# Altium integrated library Dallas Power Mgt Voltage Detector.IntLib: 64 symbols
Pins are listed as number, name and electrical type; pins without a type are passive.

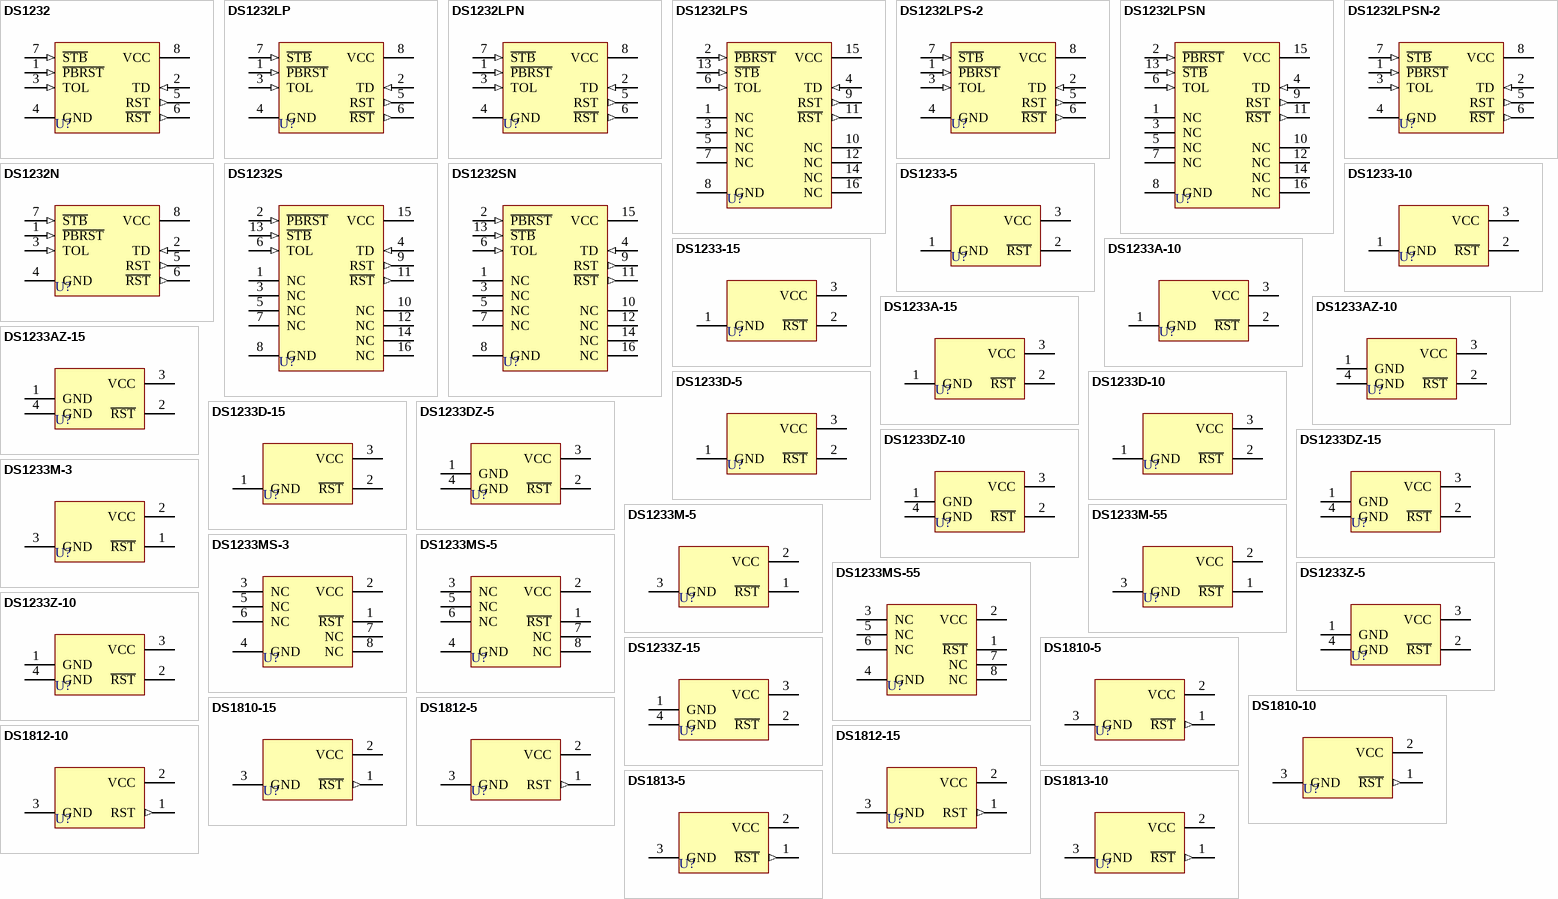
[diagram p0: symbols DS1232 to DS1813-10]

## DS1232
designator U?
MicroMonitor Chip; PackageDocument: 1999; Published: 13-Oct-2000; LatestRevisionDate: 06-Jun-2005; LatestRevisionNote: Stylized 3D Model Added.; DatasheetDocument: 7-May-1998; PackageReference: DIP8; Publisher: Altium Limited; ComponentLink1Description: Manufacturer Link; ComponentLink1URL: http://www.maxim-ic.com/; ComponentLink2Description: Datasheet; ComponentLink2URL: http://pdfserv.maxim-ic.com/en/ds/DS1232.pdf
footprint DIP8 (DIP; 8 Leads; Row Spacing 7.62 mm; Pitch 2.54 mm)
3D model DIP8 (DIP; 8 Leads; Row Spacing 7.62 mm; Pitch 2.54 mm)
pins: 1 ~{PBRST} (in), 2 TD (in), 3 TOL (in), 4 GND (power), 5 RST (out), 6 ~{RST} (out), 7 ~{STB} (in), 8 VCC (power)

## DS1232LP
designator U?
Low-Power MicroMonitor Chip; PackageDocument: 1999; Published: 13-Oct-2000; LatestRevisionDate: 06-Jun-2005; LatestRevisionNote: Stylized 3D Model Added.; DatasheetDocument: 26-Jun-1998; PackageReference: DIP8; Publisher: Altium Limited; ComponentLink1Description: Manufacturer Link; ComponentLink1URL: http://www.maxim-ic.com/; ComponentLink2Description: Datasheet; ComponentLink2URL: http://pdfserv.maxim-ic.com/en/ds/DS1232LP.pdf
footprint DIP8 (DIP; 8 Leads; Row Spacing 7.62 mm; Pitch 2.54 mm)
3D model DIP8 (DIP; 8 Leads; Row Spacing 7.62 mm; Pitch 2.54 mm)
pins: 1 ~{PBRST} (in), 2 TD (in), 3 TOL (in), 4 GND (power), 5 RST (out), 6 ~{RST} (out), 7 ~{STB} (in), 8 VCC (power)

## DS1232LPN
designator U?
Low-Power MicroMonitor Chip; PackageDocument: 1999; Published: 13-Oct-2000; LatestRevisionDate: 06-Jun-2005; LatestRevisionNote: Stylized 3D Model Added.; DatasheetDocument: 26-Jun-1998; PackageReference: DIP8; Publisher: Altium Limited; ComponentLink1Description: Manufacturer Link; ComponentLink1URL: http://www.maxim-ic.com/; ComponentLink2Description: Datasheet; ComponentLink2URL: http://pdfserv.maxim-ic.com/en/ds/DS1232LP.pdf
footprint DIP8 (DIP; 8 Leads; Row Spacing 7.62 mm; Pitch 2.54 mm)
3D model DIP8 (DIP; 8 Leads; Row Spacing 7.62 mm; Pitch 2.54 mm)
pins: 1 ~{PBRST} (in), 2 TD (in), 3 TOL (in), 4 GND (power), 5 RST (out), 6 ~{RST} (out), 7 ~{STB} (in), 8 VCC (power)

## DS1232LPS
designator U?
Low-Power MicroMonitor Chip; PackageDocument: 1999; Note: Pin numbers 1, 3, 5, 7, 10, 12, 14 and 16 are Not Connected (NC); Published: 13-Oct-2000; LatestRevisionDate: 06-Jun-2005; LatestRevisionNote: Stylized 3D Model Added.; DatasheetDocument: 26-Jun-1998; PackageReference: SOIC16W; Publisher: Altium Limited; ComponentLink1Description: Manufacturer Link; ComponentLink1URL: http://www.maxim-ic.com/; ComponentLink2Description: Datasheet; ComponentLink2URL: http://pdfserv.maxim-ic.com/en/ds/DS1232LP.pdf
footprint SOIC16W (Small Outline; 16 Leads; Body Width 7.5 mm; Pitch 1.27 mm)
3D model SOIC16W (Small Outline; 16 Leads; Body Width 7.5 mm; Pitch 1.27 mm)
pins: 1 NC, 2 ~{PBRST} (in), 3 NC, 4 TD (in), 5 NC, 6 TOL (in), 7 NC, 8 GND (power), 9 RST (out), 10 NC, 11 ~{RST} (out), 12 NC, 13 ~{STB} (in), 14 NC, 15 VCC (power), 16 NC

## DS1232LPS-2
designator U?
Low-Power MicroMonitor Chip; PackageDocument: 1999; Published: 13-Oct-2000; LatestRevisionDate: 06-Jun-2005; LatestRevisionNote: Stylized 3D Model Added.; DatasheetDocument: 26-Jun-1998; PackageReference: SOIC8N; Publisher: Altium Limited; ComponentLink1Description: Manufacturer Link; ComponentLink1URL: http://www.maxim-ic.com/; ComponentLink2Description: Datasheet; ComponentLink2URL: http://pdfserv.maxim-ic.com/en/ds/DS1232LP.pdf
footprint SOIC8N (Small Outline; 8 Leads; Body Width 3.9 mm; Pitch 1.27 mm)
3D model SOIC8N (Small Outline; 8 Leads; Body Width 3.9 mm; Pitch 1.27 mm)
pins: 1 ~{PBRST} (in), 2 TD (in), 3 TOL (in), 4 GND (power), 5 RST (out), 6 ~{RST} (out), 7 ~{STB} (in), 8 VCC (power)

## DS1232LPSN
designator U?
Low-Power MicroMonitor Chip; PackageDocument: 1999; Note: Pin numbers 1, 3, 5, 7, 10, 12, 14 and 16 are Not Connected (NC); Published: 13-Oct-2000; LatestRevisionDate: 06-Jun-2005; LatestRevisionNote: Stylized 3D Model Added.; DatasheetDocument: 26-Jun-1998; PackageReference: SOIC16W; Publisher: Altium Limited; ComponentLink1Description: Manufacturer Link; ComponentLink1URL: http://www.maxim-ic.com/; ComponentLink2Description: Datasheet; ComponentLink2URL: http://pdfserv.maxim-ic.com/en/ds/DS1232LP.pdf
footprint SOIC16W (Small Outline; 16 Leads; Body Width 7.5 mm; Pitch 1.27 mm)
3D model SOIC16W (Small Outline; 16 Leads; Body Width 7.5 mm; Pitch 1.27 mm)
pins: 1 NC, 2 ~{PBRST} (in), 3 NC, 4 TD (in), 5 NC, 6 TOL (in), 7 NC, 8 GND (power), 9 RST (out), 10 NC, 11 ~{RST} (out), 12 NC, 13 ~{STB} (in), 14 NC, 15 VCC (power), 16 NC

## DS1232LPSN-2
designator U?
Low-Power MicroMonitor Chip; PackageDocument: 1999; Published: 13-Oct-2000; LatestRevisionDate: 06-Jun-2005; LatestRevisionNote: Stylized 3D Model Added.; DatasheetDocument: 26-Jun-1998; PackageReference: SOIC8N; Publisher: Altium Limited; ComponentLink1Description: Manufacturer Link; ComponentLink1URL: http://www.maxim-ic.com/; ComponentLink2Description: Datasheet; ComponentLink2URL: http://pdfserv.maxim-ic.com/en/ds/DS1232LP.pdf
footprint SOIC8N (Small Outline; 8 Leads; Body Width 3.9 mm; Pitch 1.27 mm)
3D model SOIC8N (Small Outline; 8 Leads; Body Width 3.9 mm; Pitch 1.27 mm)
pins: 1 ~{PBRST} (in), 2 TD (in), 3 TOL (in), 4 GND (power), 5 RST (out), 6 ~{RST} (out), 7 ~{STB} (in), 8 VCC (power)

## DS1232N
designator U?
MicroMonitor Chip; PackageDocument: 1999; Published: 13-Oct-2000; LatestRevisionDate: 06-Jun-2005; LatestRevisionNote: Stylized 3D Model Added.; DatasheetDocument: 7-May-1998; PackageReference: DIP8; Publisher: Altium Limited; ComponentLink1Description: Manufacturer Link; ComponentLink1URL: http://www.maxim-ic.com/; ComponentLink2Description: Datasheet; ComponentLink2URL: http://pdfserv.maxim-ic.com/en/ds/DS1232.pdf
footprint DIP8 (DIP; 8 Leads; Row Spacing 7.62 mm; Pitch 2.54 mm)
3D model DIP8 (DIP; 8 Leads; Row Spacing 7.62 mm; Pitch 2.54 mm)
pins: 1 ~{PBRST} (in), 2 TD (in), 3 TOL (in), 4 GND (power), 5 RST (out), 6 ~{RST} (out), 7 ~{STB} (in), 8 VCC (power)

## DS1232S
designator U?
MicroMonitor Chip; PackageDocument: 1999; Note: Pin numbers 1, 3, 5, 7, 10, 12, 14 and 16 are Not Connected (NC); Published: 13-Oct-2000; LatestRevisionDate: 06-Jun-2005; LatestRevisionNote: Stylized 3D Model Added.; DatasheetDocument: 7-May-1998; PackageReference: SOIC16W; Publisher: Altium Limited; ComponentLink1Description: Manufacturer Link; ComponentLink1URL: http://www.maxim-ic.com/; ComponentLink2Description: Datasheet; ComponentLink2URL: http://pdfserv.maxim-ic.com/en/ds/DS1232.pdf
footprint SOIC16W (Small Outline; 16 Leads; Body Width 7.5 mm; Pitch 1.27 mm)
3D model SOIC16W (Small Outline; 16 Leads; Body Width 7.5 mm; Pitch 1.27 mm)
pins: 1 NC, 2 ~{PBRST} (in), 3 NC, 4 TD (in), 5 NC, 6 TOL (in), 7 NC, 8 GND (power), 9 RST (out), 10 NC, 11 ~{RST} (out), 12 NC, 13 ~{STB} (in), 14 NC, 15 VCC (power), 16 NC

## DS1232SN
designator U?
MicroMonitor Chip; PackageDocument: 1999; Note: Pin numbers 1, 3, 5, 7, 10, 12, 14 and 16 are Not Connected (NC); Published: 13-Oct-2000; LatestRevisionDate: 06-Jun-2005; LatestRevisionNote: Stylized 3D Model Added.; DatasheetDocument: 7-May-1998; PackageReference: SOIC16W; Publisher: Altium Limited; ComponentLink1Description: Manufacturer Link; ComponentLink1URL: http://www.maxim-ic.com/; ComponentLink2Description: Datasheet; ComponentLink2URL: http://pdfserv.maxim-ic.com/en/ds/DS1232.pdf
footprint SOIC16W (Small Outline; 16 Leads; Body Width 7.5 mm; Pitch 1.27 mm)
3D model SOIC16W (Small Outline; 16 Leads; Body Width 7.5 mm; Pitch 1.27 mm)
pins: 1 NC, 2 ~{PBRST} (in), 3 NC, 4 TD (in), 5 NC, 6 TOL (in), 7 NC, 8 GND (power), 9 RST (out), 10 NC, 11 ~{RST} (out), 12 NC, 13 ~{STB} (in), 14 NC, 15 VCC (power), 16 NC

## DS1233-5
designator U?
5V EconoReset; Published: 13-Oct-2000; LatestRevisionDate: 17-Jul-2002; LatestRevisionNote: Schematic Re-drawn; Re-released for DXP Platform.; DatasheetDocument: 26-Feb-1998; PackageDocument: Feb-1999; PackageReference: TO-92; Publisher: Altium Limited; ComponentLink1Description: Manufacturer Link; ComponentLink1URL: http://www.maxim-ic.com/; ComponentLink2Description: Datasheet; ComponentLink2URL: http://pdfserv.maxim-ic.com/en/ds/DS1233.pdf
footprint TO-92 (TO, Flat Index; 3 In-Line, Axial Leads; Body Dia. 4.7mm; Leads 0.56 x 0.51 mm (max))
pins: 1 GND (power), 2 ~{RST} (oc), 3 VCC (power)

## DS1233-10
designator U?
5V EconoReset; Published: 13-Oct-2000; LatestRevisionDate: 17-Jul-2002; LatestRevisionNote: Schematic Re-drawn; Re-released for DXP Platform.; DatasheetDocument: 26-Feb-1998; PackageDocument: Feb-1999; PackageReference: TO-92; Publisher: Altium Limited; ComponentLink1Description: Manufacturer Link; ComponentLink1URL: http://www.maxim-ic.com/; ComponentLink2Description: Datasheet; ComponentLink2URL: http://pdfserv.maxim-ic.com/en/ds/DS1233.pdf
footprint TO-92 (TO, Flat Index; 3 In-Line, Axial Leads; Body Dia. 4.7mm; Leads 0.56 x 0.51 mm (max))
pins: 1 GND (power), 2 ~{RST} (oc), 3 VCC (power)

## DS1233-15
designator U?
5V EconoReset; Published: 13-Oct-2000; LatestRevisionDate: 17-Jul-2002; LatestRevisionNote: Schematic Re-drawn; Re-released for DXP Platform.; DatasheetDocument: 26-Feb-1998; PackageDocument: Feb-1999; PackageReference: TO-92; Publisher: Altium Limited; ComponentLink1Description: Manufacturer Link; ComponentLink1URL: http://www.maxim-ic.com/; ComponentLink2Description: Datasheet; ComponentLink2URL: http://pdfserv.maxim-ic.com/en/ds/DS1233.pdf
footprint TO-92 (TO, Flat Index; 3 In-Line, Axial Leads; Body Dia. 4.7mm; Leads 0.56 x 0.51 mm (max))
pins: 1 GND (power), 2 ~{RST} (oc), 3 VCC (power)

## DS1233A-10
designator U?
3.3V EconoReset; Published: 13-Oct-2000; LatestRevisionDate: 17-Jul-2002; LatestRevisionNote: Schematic Re-drawn; Re-released for DXP Platform.; DatasheetDocument: 26-Feb-1998; PackageDocument: Feb-1999; PackageReference: TO-92; Publisher: Altium Limited; ComponentLink1Description: Manufacturer Link; ComponentLink1URL: http://www.maxim-ic.com/; ComponentLink2Description: Datasheet; ComponentLink2URL: http://pdfserv.maxim-ic.com/en/ds/DS1233A.pdf
footprint TO-92 (TO, Flat Index; 3 In-Line, Axial Leads; Body Dia. 4.7mm; Leads 0.56 x 0.51 mm (max))
pins: 1 GND (power), 2 ~{RST} (oc), 3 VCC (power)

## DS1233A-15
designator U?
3.3V EconoReset; Published: 13-Oct-2000; LatestRevisionDate: 17-Jul-2002; LatestRevisionNote: Schematic Re-drawn; Re-released for DXP Platform.; DatasheetDocument: 26-Feb-1998; PackageDocument: Feb-1999; PackageReference: TO-92; Publisher: Altium Limited; ComponentLink1Description: Manufacturer Link; ComponentLink1URL: http://www.maxim-ic.com/; ComponentLink2Description: Datasheet; ComponentLink2URL: http://pdfserv.maxim-ic.com/en/ds/DS1233A.pdf
footprint TO-92 (TO, Flat Index; 3 In-Line, Axial Leads; Body Dia. 4.7mm; Leads 0.56 x 0.51 mm (max))
pins: 1 GND (power), 2 ~{RST} (oc), 3 VCC (power)

## DS1233AZ-10
designator U?
3.3V Econo-Reset; Published: 13-Oct-2000; LatestRevisionDate: 17-Jul-2002; LatestRevisionNote: Re-released for DXP Platform.; DatasheetDocument: 26-Feb-1998; PackageDocument: Feb-1999; PackageReference: SOT-223; Publisher: Altium Limited; ComponentLink1Description: Manufacturer Link; ComponentLink1URL: http://www.maxim-ic.com/; ComponentLink2Description: Datasheet; ComponentLink2URL: http://pdfserv.maxim-ic.com/en/ds/DS1233A.pdf
footprint SOT-223 (SOT-223/SC-73; 4 Leads; Body 6.7 x 7.3 mm, inc. leads (LxW max))
pins: 1 GND (power), 2 ~{RST} (oc), 3 VCC (power), 4 GND (power)

## DS1233AZ-15
designator U?
3.3V Econo-Reset; Published: 13-Oct-2000; LatestRevisionDate: 17-Jul-2002; LatestRevisionNote: Re-released for DXP Platform.; DatasheetDocument: 26-Feb-1998; PackageDocument: Feb-1999; PackageReference: SOT-223; Publisher: Altium Limited; ComponentLink1Description: Manufacturer Link; ComponentLink1URL: http://www.maxim-ic.com/; ComponentLink2Description: Datasheet; ComponentLink2URL: http://pdfserv.maxim-ic.com/en/ds/DS1233A.pdf
footprint SOT-223 (SOT-223/SC-73; 4 Leads; Body 6.7 x 7.3 mm, inc. leads (LxW max))
pins: 1 GND (power), 2 ~{RST} (oc), 3 VCC (power), 4 GND (power)

## DS1233D-5
designator U?
5V EconoReset; Published: 13-Oct-2000; LatestRevisionDate: 17-Jul-2002; LatestRevisionNote: Schematic Re-drawn; Re-released for DXP Platform.; DatasheetDocument: 26-Feb-1998; PackageDocument: Feb-1999; PackageReference: TO-92; Publisher: Altium Limited; ComponentLink1Description: Manufacturer Link; ComponentLink1URL: http://www.maxim-ic.com/; ComponentLink2Description: Datasheet; ComponentLink2URL: http://pdfserv.maxim-ic.com/en/ds/DS1233D.pdf
footprint TO-92 (TO, Flat Index; 3 In-Line, Axial Leads; Body Dia. 4.7mm; Leads 0.56 x 0.51 mm (max))
pins: 1 GND (power), 2 ~{RST} (oc), 3 VCC (power)

## DS1233D-10
designator U?
5V EconoReset; Published: 13-Oct-2000; LatestRevisionDate: 17-Jul-2002; LatestRevisionNote: Schematic Re-drawn; Re-released for DXP Platform.; DatasheetDocument: 26-Feb-1998; PackageDocument: Feb-1999; PackageReference: TO-92; Publisher: Altium Limited; ComponentLink1Description: Manufacturer Link; ComponentLink1URL: http://www.maxim-ic.com/; ComponentLink2Description: Datasheet; ComponentLink2URL: http://pdfserv.maxim-ic.com/en/ds/DS1233D.pdf
footprint TO-92 (TO, Flat Index; 3 In-Line, Axial Leads; Body Dia. 4.7mm; Leads 0.56 x 0.51 mm (max))
pins: 1 GND (power), 2 ~{RST} (oc), 3 VCC (power)

## DS1233D-15
designator U?
5V EconoReset; Published: 13-Oct-2000; LatestRevisionDate: 17-Jul-2002; LatestRevisionNote: Schematic Re-drawn; Re-released for DXP Platform.; DatasheetDocument: 26-Feb-1998; PackageDocument: Feb-1999; PackageReference: TO-92; Publisher: Altium Limited; ComponentLink1Description: Manufacturer Link; ComponentLink1URL: http://www.maxim-ic.com/; ComponentLink2Description: Datasheet; ComponentLink2URL: http://pdfserv.maxim-ic.com/en/ds/DS1233D.pdf
footprint TO-92 (TO, Flat Index; 3 In-Line, Axial Leads; Body Dia. 4.7mm; Leads 0.56 x 0.51 mm (max))
pins: 1 GND (power), 2 ~{RST} (oc), 3 VCC (power)

## DS1233DZ-5
designator U?
5V EconoReset; Published: 13-Oct-2000; LatestRevisionDate: 17-Jul-2002; LatestRevisionNote: Re-released for DXP Platform.; DatasheetDocument: 26-Feb-1998; PackageDocument: Feb-1999; PackageReference: SOT-223; Publisher: Altium Limited; ComponentLink1Description: Manufacturer Link; ComponentLink1URL: http://www.maxim-ic.com/; ComponentLink2Description: Datasheet; ComponentLink2URL: http://pdfserv.maxim-ic.com/en/ds/DS1233D.pdf
footprint SOT-223 (SOT-223/SC-73; 4 Leads; Body 6.7 x 7.3 mm, inc. leads (LxW max))
pins: 1 GND (power), 2 ~{RST} (oc), 3 VCC (power), 4 GND (power)

## DS1233DZ-10
designator U?
5V EconoReset; Published: 13-Oct-2000; LatestRevisionDate: 17-Jul-2002; LatestRevisionNote: Re-released for DXP Platform.; DatasheetDocument: 26-Feb-1998; PackageDocument: Feb-1999; PackageReference: SOT-223; Publisher: Altium Limited; ComponentLink1Description: Manufacturer Link; ComponentLink1URL: http://www.maxim-ic.com/; ComponentLink2Description: Datasheet; ComponentLink2URL: http://pdfserv.maxim-ic.com/en/ds/DS1233D.pdf
footprint SOT-223 (SOT-223/SC-73; 4 Leads; Body 6.7 x 7.3 mm, inc. leads (LxW max))
pins: 1 GND (power), 2 ~{RST} (oc), 3 VCC (power), 4 GND (power)

## DS1233DZ-15
designator U?
5V EconoReset; Published: 13-Oct-2000; LatestRevisionDate: 17-Jul-2002; LatestRevisionNote: Re-released for DXP Platform.; DatasheetDocument: 26-Feb-1998; PackageDocument: Feb-1999; PackageReference: SOT-223; Publisher: Altium Limited; ComponentLink1Description: Manufacturer Link; ComponentLink1URL: http://www.maxim-ic.com/; ComponentLink2Description: Datasheet; ComponentLink2URL: http://pdfserv.maxim-ic.com/en/ds/DS1233D.pdf
footprint SOT-223 (SOT-223/SC-73; 4 Leads; Body 6.7 x 7.3 mm, inc. leads (LxW max))
pins: 1 GND (power), 2 ~{RST} (oc), 3 VCC (power), 4 GND (power)

## DS1233M-3
designator U?
EconoReset; Published: 13-Oct-2000; LatestRevisionDate: 17-Jul-2002; LatestRevisionNote: Re-released for DXP Platform.; DatasheetDocument: 26-Feb-1998; PackageDocument: Feb-1999; PackageReference: TO-92; Publisher: Altium Limited; ComponentLink1Description: Manufacturer Link; ComponentLink1URL: http://www.maxim-ic.com/; ComponentLink2Description: Datasheet; ComponentLink2URL: http://pdfserv.maxim-ic.com/en/ds/DS1233M.pdf
footprint TO-92 (TO, Flat Index; 3 In-Line, Axial Leads; Body Dia. 4.7mm; Leads 0.56 x 0.51 mm (max))
pins: 1 ~{RST} (oc), 2 VCC (power), 3 GND (power)

## DS1233M-5
designator U?
EconoReset; Published: 13-Oct-2000; LatestRevisionDate: 17-Jul-2002; LatestRevisionNote: Re-released for DXP Platform.; DatasheetDocument: 26-Feb-1998; PackageDocument: Feb-1999; PackageReference: TO-92; Publisher: Altium Limited; ComponentLink1Description: Manufacturer Link; ComponentLink1URL: http://www.maxim-ic.com/; ComponentLink2Description: Datasheet; ComponentLink2URL: http://pdfserv.maxim-ic.com/en/ds/DS1233M.pdf
footprint TO-92 (TO, Flat Index; 3 In-Line, Axial Leads; Body Dia. 4.7mm; Leads 0.56 x 0.51 mm (max))
pins: 1 ~{RST} (oc), 2 VCC (power), 3 GND (power)

## DS1233M-55
designator U?
EconoReset; Published: 13-Oct-2000; LatestRevisionDate: 17-Jul-2002; LatestRevisionNote: Re-released for DXP Platform.; DatasheetDocument: 26-Feb-1998; PackageDocument: Feb-1999; PackageReference: TO-92; Publisher: Altium Limited; ComponentLink1Description: Manufacturer Link; ComponentLink1URL: http://www.maxim-ic.com/; ComponentLink2Description: Datasheet; ComponentLink2URL: http://pdfserv.maxim-ic.com/en/ds/DS1233M.pdf
footprint TO-92 (TO, Flat Index; 3 In-Line, Axial Leads; Body Dia. 4.7mm; Leads 0.56 x 0.51 mm (max))
pins: 1 ~{RST} (oc), 2 VCC (power), 3 GND (power)

## DS1233MS-3
designator U?
EconoReset; PackageDocument: 1999; Note: Pin numbers 3, 5, 6, 7 and 8 are Not Connected (NC); Published: 13-Oct-2000; LatestRevisionDate: 06-Jun-2005; LatestRevisionNote: Stylized 3D Model Added.; DatasheetDocument: 26-Feb-1998; PackageReference: SOIC8N; Publisher: Altium Limited; ComponentLink1Description: Manufacturer Link; ComponentLink1URL: http://www.maxim-ic.com/; ComponentLink2Description: Datasheet; ComponentLink2URL: http://pdfserv.maxim-ic.com/en/ds/DS1233M.pdf
footprint SOIC8N (Small Outline; 8 Leads; Body Width 3.9 mm; Pitch 1.27 mm)
3D model SOIC8N (Small Outline; 8 Leads; Body Width 3.9 mm; Pitch 1.27 mm)
pins: 1 ~{RST} (oc), 2 VCC (power), 3 NC, 4 GND (power), 5 NC, 6 NC, 7 NC, 8 NC

## DS1233MS-5
designator U?
EconoReset; PackageDocument: 1999; Note: Pin numbers 3, 5, 6, 7 and 8 are Not Connected (NC); Published: 13-Oct-2000; LatestRevisionDate: 06-Jun-2005; LatestRevisionNote: Stylized 3D Model Added.; DatasheetDocument: 26-Feb-1998; PackageReference: SOIC8N; Publisher: Altium Limited; ComponentLink1Description: Manufacturer Link; ComponentLink1URL: http://www.maxim-ic.com/; ComponentLink2Description: Datasheet; ComponentLink2URL: http://pdfserv.maxim-ic.com/en/ds/DS1233M.pdf
footprint SOIC8N (Small Outline; 8 Leads; Body Width 3.9 mm; Pitch 1.27 mm)
3D model SOIC8N (Small Outline; 8 Leads; Body Width 3.9 mm; Pitch 1.27 mm)
pins: 1 ~{RST} (oc), 2 VCC (power), 3 NC, 4 GND (power), 5 NC, 6 NC, 7 NC, 8 NC

## DS1233MS-55
designator U?
EconoReset; PackageDocument: 1999; Note: Pin numbers 3, 5, 6, 7 and 8 are Not Connected (NC); Published: 13-Oct-2000; LatestRevisionDate: 06-Jun-2005; LatestRevisionNote: Stylized 3D Model Added.; DatasheetDocument: 26-Feb-1998; PackageReference: SOIC8N; Publisher: Altium Limited; ComponentLink1Description: Manufacturer Link; ComponentLink1URL: http://www.maxim-ic.com/; ComponentLink2Description: Datasheet; ComponentLink2URL: http://pdfserv.maxim-ic.com/en/ds/DS1233M.pdf
footprint SOIC8N (Small Outline; 8 Leads; Body Width 3.9 mm; Pitch 1.27 mm)
3D model SOIC8N (Small Outline; 8 Leads; Body Width 3.9 mm; Pitch 1.27 mm)
pins: 1 ~{RST} (oc), 2 VCC (power), 3 NC, 4 GND (power), 5 NC, 6 NC, 7 NC, 8 NC

## DS1233Z-5
designator U?
5V EconoReset; Published: 13-Oct-2000; LatestRevisionDate: 17-Jul-2002; LatestRevisionNote: Re-released for DXP Platform.; DatasheetDocument: 26-Feb-1998; PackageDocument: Feb-1999; PackageReference: SOT-223; Publisher: Altium Limited; ComponentLink1Description: Manufacturer Link; ComponentLink1URL: http://www.maxim-ic.com/; ComponentLink2Description: Datasheet; ComponentLink2URL: http://pdfserv.maxim-ic.com/en/ds/DS1233.pdf
footprint SOT-223 (SOT-223/SC-73; 4 Leads; Body 6.7 x 7.3 mm, inc. leads (LxW max))
pins: 1 GND (power), 2 ~{RST} (oc), 3 VCC (power), 4 GND (power)

## DS1233Z-10
designator U?
5V EconoReset; Published: 13-Oct-2000; LatestRevisionDate: 17-Jul-2002; LatestRevisionNote: Re-released for DXP Platform.; DatasheetDocument: 26-Feb-1998; PackageDocument: Feb-1999; PackageReference: SOT-223; Publisher: Altium Limited; ComponentLink1Description: Manufacturer Link; ComponentLink1URL: http://www.maxim-ic.com/; ComponentLink2Description: Datasheet; ComponentLink2URL: http://pdfserv.maxim-ic.com/en/ds/DS1233.pdf
footprint SOT-223 (SOT-223/SC-73; 4 Leads; Body 6.7 x 7.3 mm, inc. leads (LxW max))
pins: 1 GND (power), 2 ~{RST} (oc), 3 VCC (power), 4 GND (power)

## DS1233Z-15
designator U?
5V EconoReset; Published: 13-Oct-2000; LatestRevisionDate: 17-Jul-2002; LatestRevisionNote: Re-released for DXP Platform.; DatasheetDocument: 26-Feb-1998; PackageDocument: Feb-1999; PackageReference: SOT-223; Publisher: Altium Limited; ComponentLink1Description: Manufacturer Link; ComponentLink1URL: http://www.maxim-ic.com/; ComponentLink2Description: Datasheet; ComponentLink2URL: http://pdfserv.maxim-ic.com/en/ds/DS1233.pdf
footprint SOT-223 (SOT-223/SC-73; 4 Leads; Body 6.7 x 7.3 mm, inc. leads (LxW max))
pins: 1 GND (power), 2 ~{RST} (oc), 3 VCC (power), 4 GND (power)

## DS1810-5
designator U?
5V EconoReset with Push-Pull Output; Published: 13-Oct-2000; LatestRevisionDate: 17-Jul-2002; LatestRevisionNote: Re-released for DXP Platform.; DatasheetDocument: 26-Feb-1998; PackageDocument: Feb-1999; PackageReference: TO-92; Publisher: Altium Limited; ComponentLink1Description: Manufacturer Link; ComponentLink1URL: http://www.maxim-ic.com/; ComponentLink2Description: Datasheet; ComponentLink2URL: http://pdfserv.maxim-ic.com/en/ds/DS1810.pdf
footprint TO-92 (TO, Flat Index; 3 In-Line, Axial Leads; Body Dia. 4.7mm; Leads 0.56 x 0.51 mm (max))
pins: 1 ~{RST} (out), 2 VCC (power), 3 GND (power)

## DS1810-10
designator U?
5V EconoReset with Push-Pull Output; Published: 13-Oct-2000; LatestRevisionDate: 17-Jul-2002; LatestRevisionNote: Re-released for DXP Platform.; DatasheetDocument: 26-Feb-1998; PackageDocument: Feb-1999; PackageReference: TO-92; Publisher: Altium Limited; ComponentLink1Description: Manufacturer Link; ComponentLink1URL: http://www.maxim-ic.com/; ComponentLink2Description: Datasheet; ComponentLink2URL: http://pdfserv.maxim-ic.com/en/ds/DS1810.pdf
footprint TO-92 (TO, Flat Index; 3 In-Line, Axial Leads; Body Dia. 4.7mm; Leads 0.56 x 0.51 mm (max))
pins: 1 ~{RST} (out), 2 VCC (power), 3 GND (power)

## DS1810-15
designator U?
5V EconoReset with Push-Pull Output; Published: 13-Oct-2000; LatestRevisionDate: 17-Jul-2002; LatestRevisionNote: Re-released for DXP Platform.; DatasheetDocument: 26-Feb-1998; PackageDocument: Feb-1999; PackageReference: TO-92; Publisher: Altium Limited; ComponentLink1Description: Manufacturer Link; ComponentLink1URL: http://www.maxim-ic.com/; ComponentLink2Description: Datasheet; ComponentLink2URL: http://pdfserv.maxim-ic.com/en/ds/DS1810.pdf
footprint TO-92 (TO, Flat Index; 3 In-Line, Axial Leads; Body Dia. 4.7mm; Leads 0.56 x 0.51 mm (max))
pins: 1 ~{RST} (out), 2 VCC (power), 3 GND (power)

## DS1812-5
designator U?
5V EconoReset with Active High Push-Pull Output; Published: 13-Oct-2000; LatestRevisionDate: 17-Jul-2002; LatestRevisionNote: Re-released for DXP Platform.; DatasheetDocument: 26-Feb-1998; PackageDocument: Feb-1999; PackageReference: TO-92; Publisher: Altium Limited; ComponentLink1Description: Manufacturer Link; ComponentLink1URL: http://www.maxim-ic.com/; ComponentLink2Description: Datasheet; ComponentLink2URL: http://pdfserv.maxim-ic.com/en/ds/DS1812.pdf
footprint TO-92 (TO, Flat Index; 3 In-Line, Axial Leads; Body Dia. 4.7mm; Leads 0.56 x 0.51 mm (max))
pins: 1 RST (out), 2 VCC (power), 3 GND (power)

## DS1812-10
designator U?
5V EconoReset with Active High Push-Pull Output; Published: 13-Oct-2000; LatestRevisionDate: 17-Jul-2002; LatestRevisionNote: Re-released for DXP Platform.; DatasheetDocument: 26-Feb-1998; PackageDocument: Feb-1999; PackageReference: TO-92; Publisher: Altium Limited; ComponentLink1Description: Manufacturer Link; ComponentLink1URL: http://www.maxim-ic.com/; ComponentLink2Description: Datasheet; ComponentLink2URL: http://pdfserv.maxim-ic.com/en/ds/DS1812.pdf
footprint TO-92 (TO, Flat Index; 3 In-Line, Axial Leads; Body Dia. 4.7mm; Leads 0.56 x 0.51 mm (max))
pins: 1 RST (out), 2 VCC (power), 3 GND (power)

## DS1812-15
designator U?
5V EconoReset with Active High Push-Pull Output; Published: 13-Oct-2000; LatestRevisionDate: 17-Jul-2002; LatestRevisionNote: Re-released for DXP Platform.; DatasheetDocument: 26-Feb-1998; PackageDocument: Feb-1999; PackageReference: TO-92; Publisher: Altium Limited; ComponentLink1Description: Manufacturer Link; ComponentLink1URL: http://www.maxim-ic.com/; ComponentLink2Description: Datasheet; ComponentLink2URL: http://pdfserv.maxim-ic.com/en/ds/DS1812.pdf
footprint TO-92 (TO, Flat Index; 3 In-Line, Axial Leads; Body Dia. 4.7mm; Leads 0.56 x 0.51 mm (max))
pins: 1 RST (out), 2 VCC (power), 3 GND (power)

## DS1813-5
designator U?
5V EconoReset with Pushbutton; Published: 13-Oct-2000; LatestRevisionDate: 17-Jul-2002; LatestRevisionNote: Re-released for DXP Platform.; DatasheetDocument: 7-May-1998; PackageDocument: Feb-1999; PackageReference: TO-92; Publisher: Altium Limited; ComponentLink1Description: Manufacturer Link; ComponentLink1URL: http://www.maxim-ic.com/; ComponentLink2Description: Datasheet; ComponentLink2URL: http://pdfserv.maxim-ic.com/en/ds/DS1813.pdf
footprint TO-92 (TO, Flat Index; 3 In-Line, Axial Leads; Body Dia. 4.7mm; Leads 0.56 x 0.51 mm (max))
pins: 1 ~{RST} (out), 2 VCC (power), 3 GND (power)

## DS1813-10
designator U?
5V EconoReset with Pushbutton; Published: 13-Oct-2000; LatestRevisionDate: 17-Jul-2002; LatestRevisionNote: Re-released for DXP Platform.; DatasheetDocument: 7-May-1998; PackageDocument: Feb-1999; PackageReference: TO-92; Publisher: Altium Limited; ComponentLink1Description: Manufacturer Link; ComponentLink1URL: http://www.maxim-ic.com/; ComponentLink2Description: Datasheet; ComponentLink2URL: http://pdfserv.maxim-ic.com/en/ds/DS1813.pdf
footprint TO-92 (TO, Flat Index; 3 In-Line, Axial Leads; Body Dia. 4.7mm; Leads 0.56 x 0.51 mm (max))
pins: 1 ~{RST} (out), 2 VCC (power), 3 GND (power)

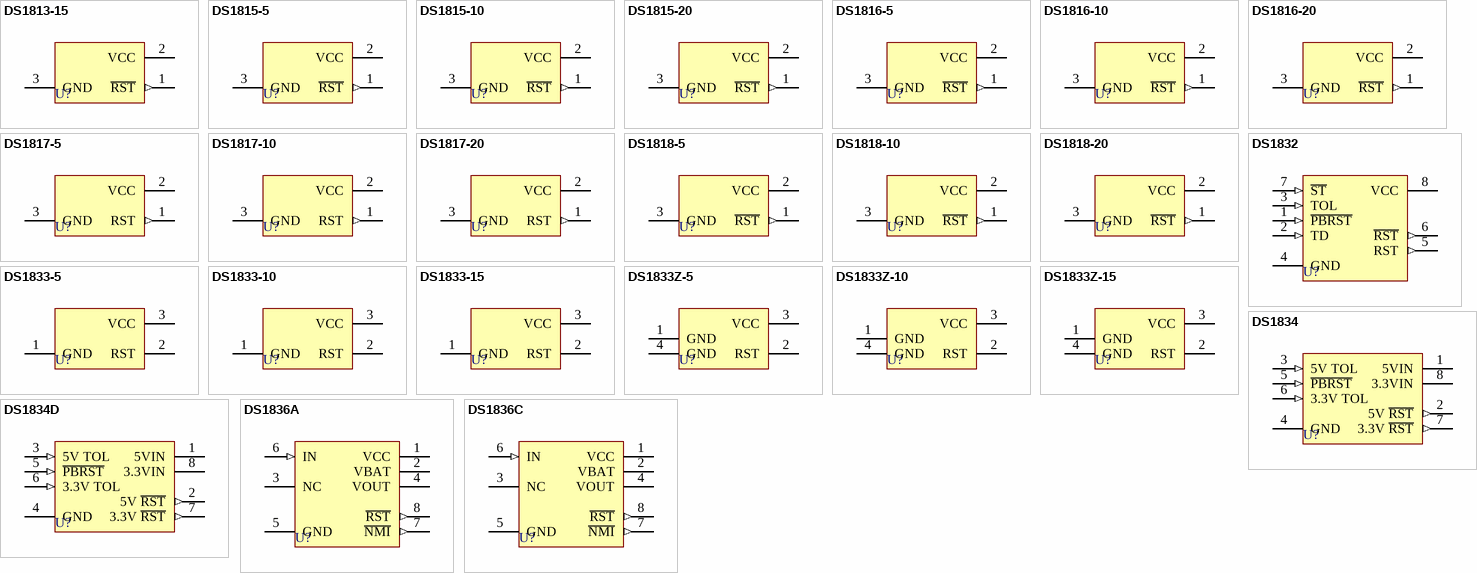
[diagram p1: symbols DS1813-15 to DS1836C]

## DS1813-15
designator U?
5V EconoReset with Pushbutton; Published: 13-Oct-2000; LatestRevisionDate: 17-Jul-2002; LatestRevisionNote: Re-released for DXP Platform.; DatasheetDocument: 7-May-1998; PackageDocument: Feb-1999; PackageReference: TO-92; Publisher: Altium Limited; ComponentLink1Description: Manufacturer Link; ComponentLink1URL: http://www.maxim-ic.com/; ComponentLink2Description: Datasheet; ComponentLink2URL: http://pdfserv.maxim-ic.com/en/ds/DS1813.pdf
footprint TO-92 (TO, Flat Index; 3 In-Line, Axial Leads; Body Dia. 4.7mm; Leads 0.56 x 0.51 mm (max))
pins: 1 ~{RST} (out), 2 VCC (power), 3 GND (power)

## DS1815-5
designator U?
3.3V EconoReset with Push-Pull Output; Published: 13-Oct-2000; LatestRevisionDate: 17-Jul-2002; LatestRevisionNote: Re-released for DXP Platform.; DatasheetDocument: 25-Mar-1998; PackageDocument: Feb-1999; PackageReference: TO-92; Publisher: Altium Limited; ComponentLink1Description: Manufacturer Link; ComponentLink1URL: http://www.maxim-ic.com/; ComponentLink2Description: Datasheet; ComponentLink2URL: http://pdfserv.maxim-ic.com/en/ds/DS1815.pdf
footprint TO-92 (TO, Flat Index; 3 In-Line, Axial Leads; Body Dia. 4.7mm; Leads 0.56 x 0.51 mm (max))
pins: 1 ~{RST} (out), 2 VCC (power), 3 GND (power)

## DS1815-10
designator U?
3.3V EconoReset with Push-Pull Output; Published: 13-Oct-2000; LatestRevisionDate: 17-Jul-2002; LatestRevisionNote: Re-released for DXP Platform.; DatasheetDocument: 25-Mar-1998; PackageDocument: Feb-1999; PackageReference: TO-92; Publisher: Altium Limited; ComponentLink1Description: Manufacturer Link; ComponentLink1URL: http://www.maxim-ic.com/; ComponentLink2Description: Datasheet; ComponentLink2URL: http://pdfserv.maxim-ic.com/en/ds/DS1815.pdf
footprint TO-92 (TO, Flat Index; 3 In-Line, Axial Leads; Body Dia. 4.7mm; Leads 0.56 x 0.51 mm (max))
pins: 1 ~{RST} (out), 2 VCC (power), 3 GND (power)

## DS1815-20
designator U?
3.3V EconoReset with Push-Pull Output; Published: 13-Oct-2000; LatestRevisionDate: 17-Jul-2002; LatestRevisionNote: Re-released for DXP Platform.; DatasheetDocument: 25-Mar-1998; PackageDocument: Feb-1999; PackageReference: TO-92; Publisher: Altium Limited; ComponentLink1Description: Manufacturer Link; ComponentLink1URL: http://www.maxim-ic.com/; ComponentLink2Description: Datasheet; ComponentLink2URL: http://pdfserv.maxim-ic.com/en/ds/DS1815.pdf
footprint TO-92 (TO, Flat Index; 3 In-Line, Axial Leads; Body Dia. 4.7mm; Leads 0.56 x 0.51 mm (max))
pins: 1 ~{RST} (out), 2 VCC (power), 3 GND (power)

## DS1816-5
designator U?
3.3V EconoReset with Open Drain Output; Published: 13-Oct-2000; LatestRevisionDate: 17-Jul-2002; LatestRevisionNote: Re-released for DXP Platform.; DatasheetDocument: 25-Mar-1998; PackageDocument: Feb-1999; PackageReference: TO-92; Publisher: Altium Limited; ComponentLink1Description: Manufacturer Link; ComponentLink1URL: http://www.maxim-ic.com/; ComponentLink2Description: Datasheet; ComponentLink2URL: http://pdfserv.maxim-ic.com/en/ds/DS1816.pdf
footprint TO-92 (TO, Flat Index; 3 In-Line, Axial Leads; Body Dia. 4.7mm; Leads 0.56 x 0.51 mm (max))
pins: 1 ~{RST} (out), 2 VCC (power), 3 GND (power)

## DS1816-10
designator U?
3.3V EconoReset with Open Drain Output; Published: 13-Oct-2000; LatestRevisionDate: 17-Jul-2002; LatestRevisionNote: Re-released for DXP Platform.; DatasheetDocument: 25-Mar-1998; PackageDocument: Feb-1999; PackageReference: TO-92; Publisher: Altium Limited; ComponentLink1Description: Manufacturer Link; ComponentLink1URL: http://www.maxim-ic.com/; ComponentLink2Description: Datasheet; ComponentLink2URL: http://pdfserv.maxim-ic.com/en/ds/DS1816.pdf
footprint TO-92 (TO, Flat Index; 3 In-Line, Axial Leads; Body Dia. 4.7mm; Leads 0.56 x 0.51 mm (max))
pins: 1 ~{RST} (out), 2 VCC (power), 3 GND (power)

## DS1816-20
designator U?
3.3V EconoReset with Open Drain Output; Published: 13-Oct-2000; LatestRevisionDate: 17-Jul-2002; LatestRevisionNote: Re-released for DXP Platform.; DatasheetDocument: 25-Mar-1998; PackageDocument: Feb-1999; PackageReference: TO-92; Publisher: Altium Limited; ComponentLink1Description: Manufacturer Link; ComponentLink1URL: http://www.maxim-ic.com/; ComponentLink2Description: Datasheet; ComponentLink2URL: http://pdfserv.maxim-ic.com/en/ds/DS1816.pdf
footprint TO-92 (TO, Flat Index; 3 In-Line, Axial Leads; Body Dia. 4.7mm; Leads 0.56 x 0.51 mm (max))
pins: 1 ~{RST} (out), 2 VCC (power), 3 GND (power)

## DS1817-5
designator U?
Active High 3.3V EconoReset; Published: 13-Oct-2000; LatestRevisionDate: 17-Jul-2002; LatestRevisionNote: Re-released for DXP Platform.; DatasheetDocument: 25-Mar-1998; PackageDocument: Feb-1999; PackageReference: TO-92; Publisher: Altium Limited; ComponentLink1Description: Manufacturer Link; ComponentLink1URL: http://www.maxim-ic.com/; ComponentLink2Description: Datasheet; ComponentLink2URL: http://pdfserv.maxim-ic.com/en/ds/DS1817.pdf
footprint TO-92 (TO, Flat Index; 3 In-Line, Axial Leads; Body Dia. 4.7mm; Leads 0.56 x 0.51 mm (max))
pins: 1 RST (out), 2 VCC (power), 3 GND (power)

## DS1817-10
designator U?
Active High 3.3V EconoReset; Published: 13-Oct-2000; LatestRevisionDate: 17-Jul-2002; LatestRevisionNote: Re-released for DXP Platform.; DatasheetDocument: 25-Mar-1998; PackageDocument: Feb-1999; PackageReference: TO-92; Publisher: Altium Limited; ComponentLink1Description: Manufacturer Link; ComponentLink1URL: http://www.maxim-ic.com/; ComponentLink2Description: Datasheet; ComponentLink2URL: http://pdfserv.maxim-ic.com/en/ds/DS1817.pdf
footprint TO-92 (TO, Flat Index; 3 In-Line, Axial Leads; Body Dia. 4.7mm; Leads 0.56 x 0.51 mm (max))
pins: 1 RST (out), 2 VCC (power), 3 GND (power)

## DS1817-20
designator U?
Active High 3.3V EconoReset; Published: 13-Oct-2000; LatestRevisionDate: 17-Jul-2002; LatestRevisionNote: Re-released for DXP Platform.; DatasheetDocument: 25-Mar-1998; PackageDocument: Feb-1999; PackageReference: TO-92; Publisher: Altium Limited; ComponentLink1Description: Manufacturer Link; ComponentLink1URL: http://www.maxim-ic.com/; ComponentLink2Description: Datasheet; ComponentLink2URL: http://pdfserv.maxim-ic.com/en/ds/DS1817.pdf
footprint TO-92 (TO, Flat Index; 3 In-Line, Axial Leads; Body Dia. 4.7mm; Leads 0.56 x 0.51 mm (max))
pins: 1 RST (out), 2 VCC (power), 3 GND (power)

## DS1818-5
designator U?
3.3V EconoReset with Pushbutton; Published: 13-Oct-2000; LatestRevisionDate: 17-Jul-2002; LatestRevisionNote: Re-released for DXP Platform.; DatasheetDocument: 7-May-1998; PackageDocument: Feb-1999; PackageReference: TO-92; Publisher: Altium Limited; ComponentLink1Description: Manufacturer Link; ComponentLink1URL: http://www.maxim-ic.com/; ComponentLink2Description: Datasheet; ComponentLink2URL: http://pdfserv.maxim-ic.com/en/ds/DS1818.pdf
footprint TO-92 (TO, Flat Index; 3 In-Line, Axial Leads; Body Dia. 4.7mm; Leads 0.56 x 0.51 mm (max))
pins: 1 ~{RST} (out), 2 VCC (power), 3 GND (power)

## DS1818-10
designator U?
3.3V EconoReset with Pushbutton; Published: 13-Oct-2000; LatestRevisionDate: 17-Jul-2002; LatestRevisionNote: Re-released for DXP Platform.; DatasheetDocument: 7-May-1998; PackageDocument: Feb-1999; PackageReference: TO-92; Publisher: Altium Limited; ComponentLink1Description: Manufacturer Link; ComponentLink1URL: http://www.maxim-ic.com/; ComponentLink2Description: Datasheet; ComponentLink2URL: http://pdfserv.maxim-ic.com/en/ds/DS1818.pdf
footprint TO-92 (TO, Flat Index; 3 In-Line, Axial Leads; Body Dia. 4.7mm; Leads 0.56 x 0.51 mm (max))
pins: 1 ~{RST} (out), 2 VCC (power), 3 GND (power)

## DS1818-20
designator U?
3.3V EconoReset with Pushbutton; Published: 13-Oct-2000; LatestRevisionDate: 17-Jul-2002; LatestRevisionNote: Re-released for DXP Platform.; DatasheetDocument: 7-May-1998; PackageDocument: Feb-1999; PackageReference: TO-92; Publisher: Altium Limited; ComponentLink1Description: Manufacturer Link; ComponentLink1URL: http://www.maxim-ic.com/; ComponentLink2Description: Datasheet; ComponentLink2URL: http://pdfserv.maxim-ic.com/en/ds/DS1818.pdf
footprint TO-92 (TO, Flat Index; 3 In-Line, Axial Leads; Body Dia. 4.7mm; Leads 0.56 x 0.51 mm (max))
pins: 1 ~{RST} (out), 2 VCC (power), 3 GND (power)

## DS1832
designator U?
3.3V MicroMonitor Chip; PackageDocument: 1999; Published: 13-Oct-2000; LatestRevisionDate: 06-Jun-2005; LatestRevisionNote: Stylized 3D Model Added.; DatasheetDocument: 26-Jun-1998; PackageReference: DIP8; Publisher: Altium Limited; ComponentLink1Description: Manufacturer Link; ComponentLink1URL: http://www.maxim-ic.com/; ComponentLink2Description: Datasheet; ComponentLink2URL: http://pdfserv.maxim-ic.com/en/ds/DS1832.pdf
footprint DIP8 (DIP; 8 Leads; Row Spacing 7.62 mm; Pitch 2.54 mm)
3D model DIP8 (DIP; 8 Leads; Row Spacing 7.62 mm; Pitch 2.54 mm)
pins: 1 ~{PBRST} (in), 2 TD (in), 3 TOL (in), 4 GND (power), 5 RST (out), 6 ~{RST} (out), 7 ~{ST} (in), 8 VCC (power)

## DS1833-5
designator U?
5V EconoReset; Published: 13-Oct-2000; LatestRevisionDate: 17-Jul-2002; LatestRevisionNote: Re-released for DXP Platform.; DatasheetDocument: 26-Feb-1998; PackageDocument: Feb-1999; PackageReference: TO-92; Publisher: Altium Limited; ComponentLink1Description: Manufacturer Link; ComponentLink1URL: http://www.maxim-ic.com/; ComponentLink2Description: Datasheet; ComponentLink2URL: http://pdfserv.maxim-ic.com/en/ds/DS1833.pdf
footprint TO-92 (TO, Flat Index; 3 In-Line, Axial Leads; Body Dia. 4.7mm; Leads 0.56 x 0.51 mm (max))
pins: 1 GND (power), 2 RST (oc), 3 VCC (power)

## DS1833-10
designator U?
5V EconoReset; Published: 13-Oct-2000; LatestRevisionDate: 17-Jul-2002; LatestRevisionNote: Re-released for DXP Platform.; DatasheetDocument: 26-Feb-1998; PackageDocument: Feb-1999; PackageReference: TO-92; Publisher: Altium Limited; ComponentLink1Description: Manufacturer Link; ComponentLink1URL: http://www.maxim-ic.com/; ComponentLink2Description: Datasheet; ComponentLink2URL: http://pdfserv.maxim-ic.com/en/ds/DS1833.pdf
footprint TO-92 (TO, Flat Index; 3 In-Line, Axial Leads; Body Dia. 4.7mm; Leads 0.56 x 0.51 mm (max))
pins: 1 GND (power), 2 RST (oc), 3 VCC (power)

## DS1833-15
designator U?
5V EconoReset; Published: 13-Oct-2000; LatestRevisionDate: 17-Jul-2002; LatestRevisionNote: Re-released for DXP Platform.; DatasheetDocument: 26-Feb-1998; PackageDocument: Feb-1999; PackageReference: TO-92; Publisher: Altium Limited; ComponentLink1Description: Manufacturer Link; ComponentLink1URL: http://www.maxim-ic.com/; ComponentLink2Description: Datasheet; ComponentLink2URL: http://pdfserv.maxim-ic.com/en/ds/DS1833.pdf
footprint TO-92 (TO, Flat Index; 3 In-Line, Axial Leads; Body Dia. 4.7mm; Leads 0.56 x 0.51 mm (max))
pins: 1 GND (power), 2 RST (oc), 3 VCC (power)

## DS1833Z-5
designator U?
5V EconoReset; Published: 13-Oct-2000; LatestRevisionDate: 17-Jul-2002; LatestRevisionNote: Re-released for DXP Platform.; DatasheetDocument: 26-Feb-1998; PackageDocument: Feb-1999; PackageReference: SOT-223; Publisher: Altium Limited; ComponentLink1Description: Manufacturer Link; ComponentLink1URL: http://www.maxim-ic.com/; ComponentLink2Description: Datasheet; ComponentLink2URL: http://pdfserv.maxim-ic.com/en/ds/DS1833.pdf
footprint SOT-223 (SOT-223/SC-73; 4 Leads; Body 6.7 x 7.3 mm, inc. leads (LxW max))
pins: 1 GND (power), 2 RST (oc), 3 VCC (power), 4 GND (power)

## DS1833Z-10
designator U?
5V EconoReset; Published: 13-Oct-2000; LatestRevisionDate: 17-Jul-2002; LatestRevisionNote: Re-released for DXP Platform.; DatasheetDocument: 26-Feb-1998; PackageDocument: Feb-1999; PackageReference: SOT-223; Publisher: Altium Limited; ComponentLink1Description: Manufacturer Link; ComponentLink1URL: http://www.maxim-ic.com/; ComponentLink2Description: Datasheet; ComponentLink2URL: http://pdfserv.maxim-ic.com/en/ds/DS1833.pdf
footprint SOT-223 (SOT-223/SC-73; 4 Leads; Body 6.7 x 7.3 mm, inc. leads (LxW max))
pins: 1 GND (power), 2 RST (oc), 3 VCC (power), 4 GND (power)

## DS1833Z-15
designator U?
5V EconoReset; Published: 13-Oct-2000; LatestRevisionDate: 17-Jul-2002; LatestRevisionNote: Re-released for DXP Platform.; DatasheetDocument: 26-Feb-1998; PackageDocument: Feb-1999; PackageReference: SOT-223; Publisher: Altium Limited; ComponentLink1Description: Manufacturer Link; ComponentLink1URL: http://www.maxim-ic.com/; ComponentLink2Description: Datasheet; ComponentLink2URL: http://pdfserv.maxim-ic.com/en/ds/DS1833.pdf
footprint SOT-223 (SOT-223/SC-73; 4 Leads; Body 6.7 x 7.3 mm, inc. leads (LxW max))
pins: 1 GND (power), 2 RST (oc), 3 VCC (power), 4 GND (power)

## DS1834
designator U?
Dual EconoReset with Pushbutton; PackageDocument: 1999; Published: 13-Oct-2000; LatestRevisionDate: 06-Jun-2005; LatestRevisionNote: Stylized 3D Model Added.; DatasheetDocument: 26-Jun-1998; PackageReference: DIP8; Publisher: Altium Limited; ComponentLink1Description: Manufacturer Link; ComponentLink1URL: http://www.maxim-ic.com/; ComponentLink2Description: Datasheet; ComponentLink2URL: http://pdfserv.maxim-ic.com/en/ds/DS1834-DS1834D.pdf
footprint DIP8 (DIP; 8 Leads; Row Spacing 7.62 mm; Pitch 2.54 mm)
3D model DIP8 (DIP; 8 Leads; Row Spacing 7.62 mm; Pitch 2.54 mm)
pins: 1 5VIN (power), 2 5V ~{RST} (out), 3 5V TOL (in), 4 GND (power), 5 ~{PBRST} (in), 6 3.3V TOL (in), 7 3.3V ~{RST} (out), 8 3.3VIN (power)

## DS1834D
designator U?
Dual EconoReset with Pushbutton; PackageDocument: 1999; Published: 13-Oct-2000; LatestRevisionDate: 06-Jun-2005; LatestRevisionNote: Stylized 3D Model Added.; DatasheetDocument: 26-Jun-1998; PackageReference: DIP8; Publisher: Altium Limited; ComponentLink1Description: Manufacturer Link; ComponentLink1URL: http://www.maxim-ic.com/; ComponentLink2Description: Datasheet; ComponentLink2URL: http://pdfserv.maxim-ic.com/en/ds/DS1834-DS1834D.pdf
footprint DIP8 (DIP; 8 Leads; Row Spacing 7.62 mm; Pitch 2.54 mm)
3D model DIP8 (DIP; 8 Leads; Row Spacing 7.62 mm; Pitch 2.54 mm)
pins: 1 5VIN (power), 2 5V ~{RST} (out), 3 5V TOL (in), 4 GND (power), 5 ~{PBRST} (in), 6 3.3V TOL (in), 7 3.3V ~{RST} (out), 8 3.3VIN (power)

## DS1836A
designator U?
3.3V/5V MicroManager; PackageDocument: 1999; Note: Pin number 3 is Not Connected (NC); Published: 13-Oct-2000; LatestRevisionDate: 06-Jun-2005; LatestRevisionNote: Stylized 3D Model Added.; DatasheetDocument: 29-Apr-1999; PackageReference: DIP8; Publisher: Altium Limited; ComponentLink1Description: Manufacturer Link; ComponentLink1URL: http://www.maxim-ic.com/; ComponentLink2Description: Datasheet; ComponentLink2URL: http://pdfserv.maxim-ic.com/en/ds/DS1836-DS1836D.pdf
footprint DIP8 (DIP; 8 Leads; Row Spacing 7.62 mm; Pitch 2.54 mm)
3D model DIP8 (DIP; 8 Leads; Row Spacing 7.62 mm; Pitch 2.54 mm)
pins: 1 VCC (power), 2 VBAT (power), 3 NC, 4 VOUT (power), 5 GND (power), 6 IN (in), 7 ~{NMI} (out), 8 ~{RST} (out)

## DS1836C
designator U?
3.3V/5V MicroManager; PackageDocument: 1999; Note: Pin number 3 is Not Connected (NC); Published: 13-Oct-2000; LatestRevisionDate: 06-Jun-2005; LatestRevisionNote: Stylized 3D Model Added.; DatasheetDocument: 29-Apr-1999; PackageReference: DIP8; Publisher: Altium Limited; ComponentLink1Description: Manufacturer Link; ComponentLink1URL: http://www.maxim-ic.com/; ComponentLink2Description: Datasheet; ComponentLink2URL: http://pdfserv.maxim-ic.com/en/ds/DS1836-DS1836D.pdf
footprint DIP8 (DIP; 8 Leads; Row Spacing 7.62 mm; Pitch 2.54 mm)
3D model DIP8 (DIP; 8 Leads; Row Spacing 7.62 mm; Pitch 2.54 mm)
pins: 1 VCC (power), 2 VBAT (power), 3 NC, 4 VOUT (power), 5 GND (power), 6 IN (in), 7 ~{NMI} (out), 8 ~{RST} (out)